# Altium schematic symbol library LDO.SchLib: 3 symbols
Pins are listed as number, name and electrical type; pins without a type are passive.

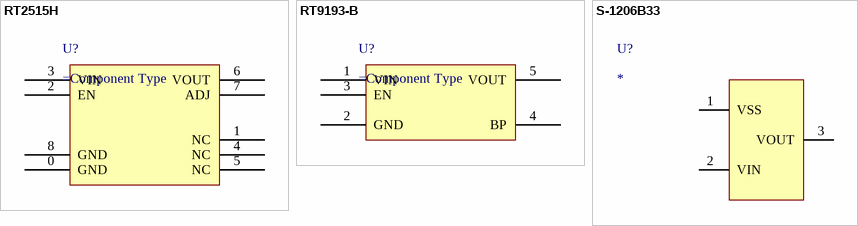
[diagram p0: symbols RT2515H to S-1206B33]

## RT2515H
designator U?
pins: 0 GND, 1 NC, 2 EN, 3 VIN, 4 NC, 5 NC, 6 VOUT, 7 ADJ, 8 GND

## RT9193-B
designator U?
pins: 1 VIN, 2 GND, 3 EN, 4 BP, 5 VOUT

## S-1206B33
designator U?
pins: 1 VSS, 2 VIN, 3 VOUT